# Altium schematic symbol library MP6610GS-P.SchLib: 2 symbols
Pins are listed as number, name and electrical type; pins without a type are passive.

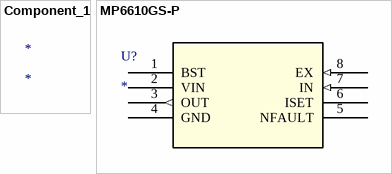
[diagram p0: symbols Component_1 to MP6610GS-P]

## Component_1
designator *

## MP6610GS-P
designator U?
No Description Available; Mfr_Name: Monolithic Power Systems; RefDes: RefDes; Type: Type
footprint SOIC-8_MP6610_MNP
pins: 1 BST, 2 VIN (power), 3 OUT (out), 4 GND (power), 5 NFAULT, 6 ISET, 7 IN (in), 8 EX (in)